# EAGLE library part W25Q40EWUXIE_TR (library W25Q40EWUXIE_TR)
NOR Flash spiFlash, 1.8V 4M-bit, 4Kb Uniform Sector Source: Datasheet <https://www.winbond.com/resource-files/w25q40ewrevf11252015sfdp.pdf>
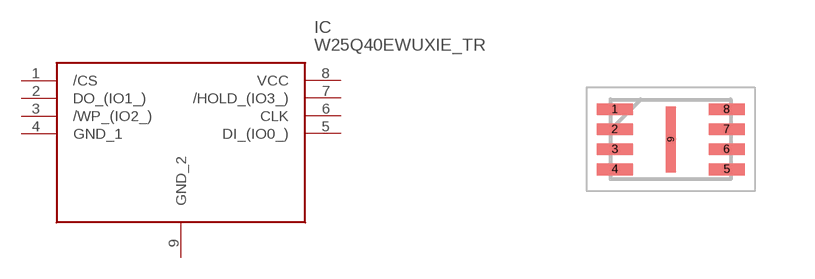
[diagram p0: symbol with the pads of SON50P300X200X60-9N; footprint SON50P300X200X60-9N]

Designator prefix IC

## W25Q40EWUXIE_TR (Description: NOR Flash spiFlash, 1.8V 4M-bit, 4Kb Uniform Sector; Height: 0.6mm; Manufacturer_Name: Winbond; Manufacturer_Part_Number: W25Q40EWUXIE TR; Mouser_Part_Number: 454-W25Q40EWUXIETR; Mouser_Price-Stock: https://www.mouser.co.uk/ProductDetail/Winbond/W25Q40EWUXIE-TR?qs=qSfuJ%252Bfl%2Fd5fDNE4rBAmrw%3D%3D)  [SON50P300X200X60-9N]
1  /CS
2  DO_(IO1_)
3  /WP_(IO2_)
4  GND_1
5  DI_(IO0_)
6  CLK
7  /HOLD_(IO3_)
8  VCC
9  GND_2

## Footprint SON50P300X200X60-9N (pad centres in mm)
8-Pad USON 2x3x0.6-mm
smd 0.9 x 0.3: 1 -1.4,0.75; 2 -1.4,0.25; 3 -1.4,-0.25; 4 -1.4,-0.75; 5 1.4,-0.75; 6 1.4,-0.25; 7 1.4,0.25; 8 1.4,0.75
smd 0.25 x 1.65: 9 0,0